# EAGLE library part LM2622 (library texas-instruments)
DC/DC CONVERTER 600kHz/1.3MHz Step-up PWM
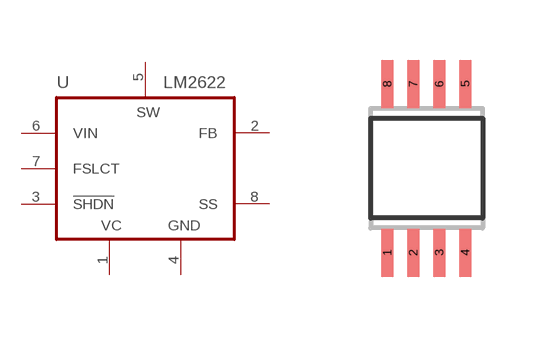
[diagram p11: symbol with the pads of MSOP08; footprint MSOP08]

Designator prefix U

## LM2622 (P1I: o)  [MSOP08]
1  VC  pas
2  FB  in
3  !SHDN!  pas
4  GND  pwr
5  SW  pas
6  VIN  in
7  FSLCT  in
8  SS  pas

## Footprint MSOP08 (pad centres in mm)
Mini Small Outline Package
smd 0.3 x 1.2: 1 -0.976,-2.113; 2 -0.326,-2.113; 3 0.324,-2.113; 4 0.974,-2.113; 5 0.974,2.112; 6 0.324,2.112; 7 -0.326,2.112; 8 -0.976,2.112